# EAGLE library part DMC_1,5/8- (library isystems)
MINI COMBICON-Steckverbinder im Raster 3,5mm Zweireihige Grundgehäuse für Reflow-Prozesse Mit Lock & Release-Verriegelung und Gewindeflansch, Steckrichtung parallel zur Leiterplatte
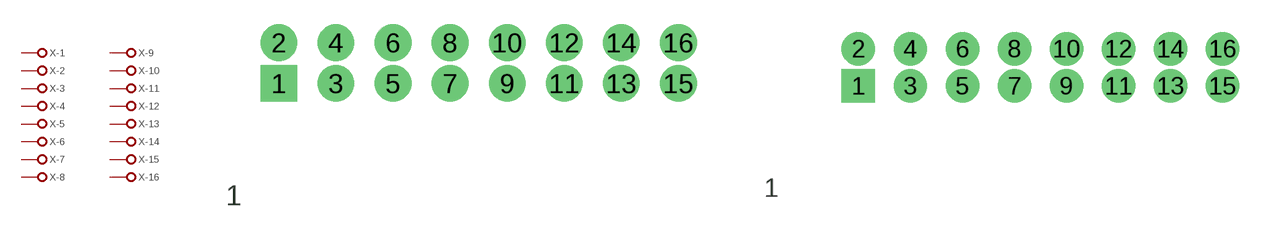
[diagram p29: symbol with the pads of DMC_1,5/8-G1-3,5_P20THR; footprints DMC_1,5/8-G1-3,5_P20THR, DMC_1,5/8-G1F-3,5-LR_P20THR]

Designator prefix X; gates -1=CONX1 -2=CONX1 -3=CONX1 -4=CONX1 -5=CONX1 -6=CONX1 -7=CONX1 -8=CONX1 -9=CONX1 -10=CONX1 -11=CONX1 -12=CONX1 -13=CONX1 -14=CONX1 -15=CONX1 -16=CONX1

## DMC_1,5/8-G1-3,5_P20THR  [DMC_1,5/8-G1-3,5_P20THR]
1  -1:P
2  -2:P
3  -3:P
4  -4:P
5  -5:P
6  -6:P
7  -7:P
8  -8:P
9  -9:P
10  -10:P
11  -11:P
12  -12:P
13  -13:P
14  -14:P
15  -15:P
16  -16:P

## DMC_1,5/8-G1F-3,5-LR_P20THR  [DMC_1,5/8-G1F-3,5-LR_P20THR]
Pads as for DMC_1,5/8-G1-3,5_P20THR

## Footprint DMC_1,5/8-G1-3,5_P20THR (pad centres in mm)
drill 1.5 pad 2.2 square: 1 -12.25,0
drill 1.5 pad 2.2: 2 -12.25,2.5; 3 -8.75,0; 4 -8.75,2.5; 5 -5.25,0; 6 -5.25,2.5; 7 -1.75,0; 8 -1.75,2.5; 9 1.75,0; 10 1.75,2.5; 11 5.25,0; 12 5.25,2.5; 13 8.75,0; 14 8.75,2.5; 15 12.25,0; 16 12.25,2.5

## Footprint DMC_1,5/8-G1F-3,5-LR_P20THR (pad centres in mm)
drill 1.5 pad 2.2 square: 1 -12.25,0
drill 1.5 pad 2.2: 2 -12.25,2.5; 3 -8.75,0; 4 -8.75,2.5; 5 -5.25,0; 6 -5.25,2.5; 7 -1.75,0; 8 -1.75,2.5; 9 1.75,0; 10 1.75,2.5; 11 5.25,0; 12 5.25,2.5; 13 8.75,0; 14 8.75,2.5; 15 12.25,0; 16 12.25,2.5